# Altium footprint library ET60S-D05-3-08-D05-L-R1-S.PcbLib: 1 footprints
Each footprint in its own frame and in the unit in brackets; x right, y up, seen from the top. Pads: shape width x height; smd on the part's side, far side on the other; paste and mask are expansions set on the pad; w line width, h text height; cw(c..) or ccw(c..) is an arc to the next point about the centre after c.
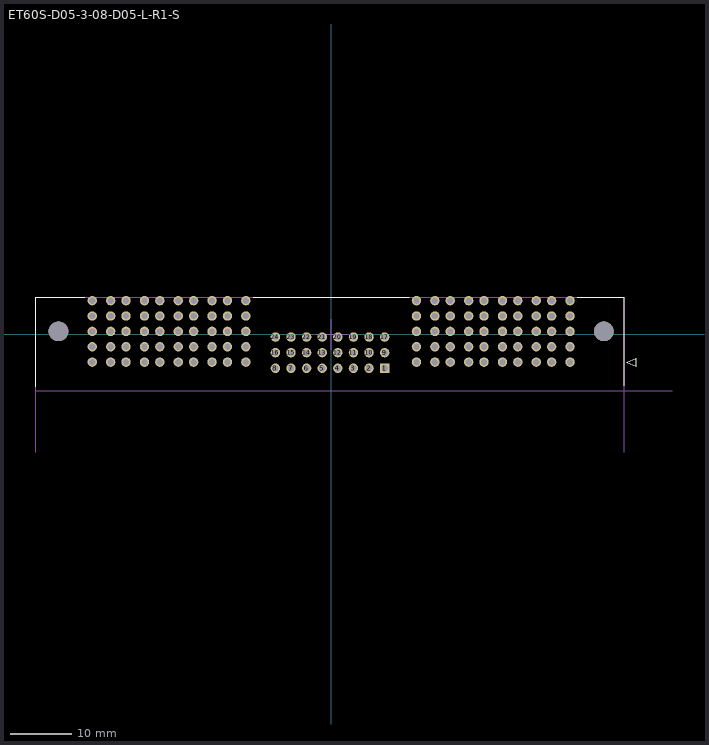
[diagram p0: the footprint, top view; thin cyan lines are the x and y axes]

## ET60S-D05-3-08-D05-L-R1-S [mm]
pads (126):
  rect 1.53x1.53 / inner round 1.53 / far side rect 1.53x1.53 hole 1.02: 1(8.71,-5.5)
  round 1.53 hole 1.02: 2(6.17,-5.5) 3(3.63,-5.5) 4(1.09,-5.5) 5(-1.45,-5.5) 6(-3.99,-5.5) 7(-6.53,-5.5) 8(-9.07,-5.5) 9(8.71,-2.96) 10(6.17,-2.96) 11(3.63,-2.96) 12(1.09,-2.96) 13(-1.45,-2.96) 14(-3.99,-2.96) 15(-6.53,-2.96) 16(-9.07,-2.96) 17(8.71,-0.42) 18(6.17,-0.42) 19(3.63,-0.42) 20(1.09,-0.42) 21(-1.45,-0.42) 22(-3.99,-0.42) 23(-6.53,-0.42) 24(-9.07,-0.42) P01(35.88,-4.5) P01(35.88,-2) P01(35.88,0.5) P01(35.88,3) P01(35.88,5.5) P01(38.88,-4.5) P01(38.88,-2) P01(38.88,0.5) P01(38.88,3) P01(38.88,5.5) P02(30.38,-4.5) P02(30.38,-2) P02(30.38,0.5) P02(30.38,3) P02(30.38,5.5) P02(33.38,-4.5) P02(33.38,-2) P02(33.38,0.5) P02(33.38,3) P02(33.38,5.5) P03(24.88,-4.5) P03(24.88,-2) P03(24.88,0.5) P03(24.88,3) P03(24.88,5.5) P03(27.88,-4.5) P03(27.88,-2) P03(27.88,0.5) P03(27.88,3) P03(27.88,5.5) P04(19.38,-4.5) P04(19.38,-2) P04(19.38,0.5) P04(19.38,3) P04(19.38,5.5) P04(22.38,-4.5) P04(22.38,-2) P04(22.38,0.5) P04(22.38,3) P04(22.38,5.5) P05(13.88,-4.5) P05(13.88,-2) P05(13.88,0.5) P05(13.88,3) P05(13.88,5.5) P05(16.88,-4.5) P05(16.88,-2) P05(16.88,0.5) P05(16.88,3) P05(16.88,5.5) P06(-16.88,-4.5) P06(-16.88,-2) P06(-16.88,0.5) P06(-16.88,3) P06(-16.88,5.5) P06(-13.88,-4.5) P06(-13.88,-2) P06(-13.88,0.5) P06(-13.88,3) P06(-13.88,5.5) P07(-22.38,-4.5) P07(-22.38,-2) P07(-22.38,0.5) P07(-22.38,3) P07(-22.38,5.5) P07(-19.38,-4.5) P07(-19.38,-2) P07(-19.38,0.5) P07(-19.38,3) P07(-19.38,5.5) P08(-27.88,-4.5) P08(-27.88,-2) P08(-27.88,0.5) P08(-27.88,3) P08(-27.88,5.5) P08(-24.88,-4.5) P08(-24.88,-2) P08(-24.88,0.5) P08(-24.88,3) P08(-24.88,5.5) P09(-33.38,-4.5) P09(-33.38,-2) P09(-33.38,0.5) P09(-33.38,3) P09(-33.38,5.5) P09(-30.38,-4.5) P09(-30.38,-2) P09(-30.38,0.5) P09(-30.38,3) P09(-30.38,5.5) P10(-38.88,-4.5) P10(-38.88,-2) P10(-38.88,0.5) P10(-38.88,3) P10(-38.88,5.5) P10(-35.88,-4.5) P10(-35.88,-2) P10(-35.88,0.5) P10(-35.88,3) P10(-35.88,5.5)
  round 3.2 hole 3.2 unplated: ""(-44.38,0.5) ""(44.38,0.5)
Top Overlay:
  lines w0.2: -48.06,-8.5 -48.06,6.09 -40.08,6.09 ; -12.68,6.09 12.68,6.09 ; 40.08,6.09 47.7,6.09 47.7,-8.32 ; 48.12,-4.5 49.644,-5.135 49.644,-3.865 48.12,-4.5
Top Designator:
  text ".Designator" at -3.631,-6.94 h1.52
3D Body:
  lines w0.2: -48.06,-19.13 -48.06,-8.82 -48.06,6.09 47.7,6.09 47.7,-19.13 ; -48.06,-9.15 55.5,-9.15
  text "PCB EDGE" at 48.26,-8.707 h1
Center Cross:
  lines w0.2: -2.5,0 0,0 ; 0,-2.5 0,0 ; 0,2.5 0,0 ; 2.5,0 0,0
3D body "ET60S-D05-3-08-D05-L-R1-S.stp": height 10, standoff -4.48, extent -48.06,-19.12 47.7,6.1